# EAGLE library part SN74LVC1T45 (library reprap)
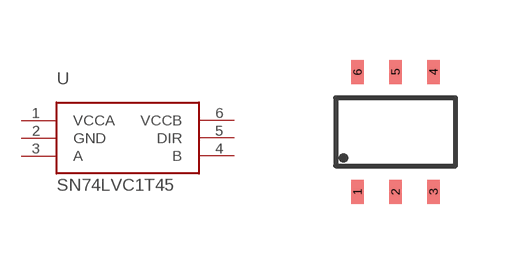
[diagram p17: symbol with the pads of DBV; footprint DBV]

Designator prefix -

## SN74LVC1T45  [DBV]
1  VCCA
2  GND
3  A
4  B
5  DIR
6  VCCB

## Footprint DBV (pad centres in mm)
smd 0.305 x 0.61: 1 -0.95,-1.5; 2 0,-1.5; 3 0.95,-1.5; 4 0.95,1.5; 5 0,1.5; 6 -0.95,1.5